# Altium footprint library ProMicro.PcbLib: 1 footprints
Each footprint in its own frame and in the unit in brackets; x right, y up, seen from the top. Pads: shape width x height; smd on the part's side, far side on the other; paste and mask are expansions set on the pad; w line width, h text height; cw(c..) or ccw(c..) is an arc to the next point about the centre after c.
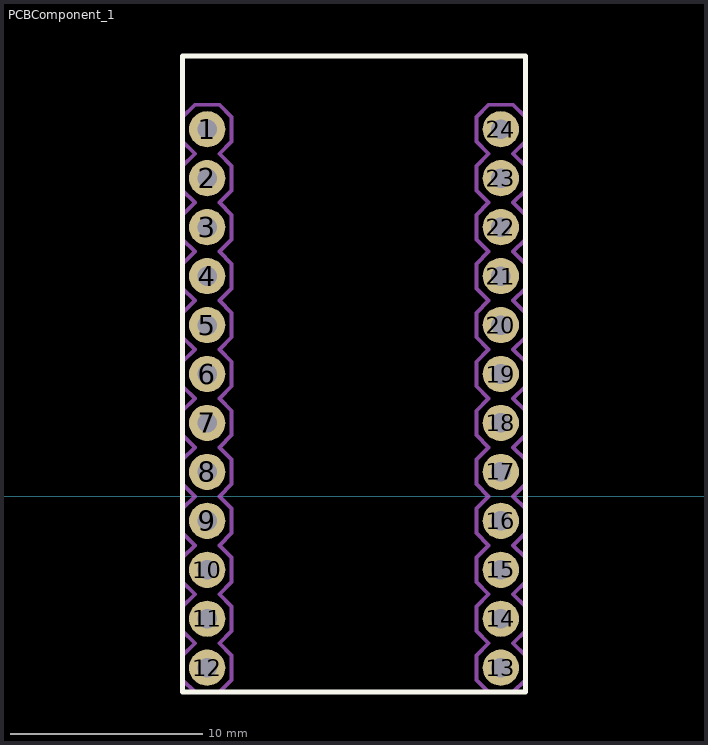
[diagram p0: the footprint, top view; thin cyan lines are the x and y axes]

## PCBComponent_1 [mil]
pads (24):
  round 74 hole 40: 1(500,750) 2(500,650) 3(500,550) 4(500,450) 5(500,350) 6(500,250) 7(500,150) 8(500,50) 9(500,-50) 10(500,-150) 11(500,-250) 12(500,-350) 13(1100,-350) 14(1100,-250) 15(1100,-150) 16(1100,-50) 17(1100,50) 18(1100,150) 19(1100,250) 20(1100,350) 21(1100,450) 22(1100,550) 23(1100,650) 24(1100,750)
Top Overlay:
  lines w10: 450,-400 450,900 1150,900 1150,-400 450,-400
Mechanical 4:
  region: 1110,160 1090,160 1090,140 1110,140
  region: 1110,260 1090,260 1090,240 1110,240
  region: 1110,360 1090,360 1090,340 1110,340
  region: 1110,460 1090,460 1090,440 1110,440
  region: 1110,560 1090,560 1090,540 1110,540
  region: 1110,660 1090,660 1090,640 1110,640
  region: 1110,760 1090,760 1090,740 1110,740
  region: 1110,60 1090,60 1090,40 1110,40
  region: 1110,-40 1090,-40 1090,-60 1110,-60
  region: 1110,-140 1090,-140 1090,-160 1110,-160
  region: 1110,-240 1090,-240 1090,-260 1110,-260
  region: 1110,-340 1090,-340 1090,-360 1110,-360
  region: 510,160 490,160 490,140 510,140
  region: 510,260 490,260 490,240 510,240
  region: 510,360 490,360 490,340 510,340
  region: 510,460 490,460 490,440 510,440
  region: 510,560 490,560 490,540 510,540
  region: 510,660 490,660 490,640 510,640
  region: 510,760 490,760 490,740 510,740
  region: 510,60 490,60 490,40 510,40
  region: 510,-40 490,-40 490,-60 510,-60
  region: 510,-140 490,-140 490,-160 510,-160
  region: 510,-240 490,-240 490,-260 510,-260
  region: 510,-340 490,-340 490,-360 510,-360
Mechanical 8:
  lines w8: 450,-375 450,-325 475,-300 450,-275 450,-225 475,-200 450,-175 450,-125 475,-100 450,-75 450,-25 475,0 450,25 450,75 475,100 450,125 450,175 475,200 450,225 450,275 475,300 450,325 450,375 475,400 450,425 450,475 475,500 450,525 450,575 475,600 450,625 450,675 475,700 450,725 450,775 475,800 525,800 550,775 550,725 525,700 550,675 550,625 525,600 550,575 550,525 525,500 550,475 550,425 525,400 550,375 550,325 525,300 550,275 550,225 525,200 550,175 550,125 525,100 550,75 550,25 525,0 550,-25 550,-75 525,-100 550,-125 550,-175 525,-200 550,-225 550,-275 525,-300 550,-325 550,-375 525,-400 475,-400 450,-375 ; 1050,-375 1050,-325 1075,-300 1050,-275 1050,-225 1075,-200 1050,-175 1050,-125 1075,-100 1050,-75 1050,-25 1075,0 1050,25 1050,75 1075,100 1050,125 1050,175 1075,200 1050,225 1050,275 1075,300 1050,325 1050,375 1075,400 1050,425 1050,475 1075,500 1050,525 1050,575 1075,600 1050,625 1050,675 1075,700 1050,725 1050,775 1075,800 1125,800 1150,775 1150,725 1125,700 1150,675 1150,625 1125,600 1150,575 1150,525 1125,500 1150,475 1150,425 1125,400 1150,375 1150,325 1125,300 1150,275 1150,225 1125,200 1150,175 1150,125 1125,100 1150,75 1150,25 1125,0 1150,-25 1150,-75 1125,-100 1150,-125 1150,-175 1125,-200 1150,-225 1150,-275 1125,-300 1150,-325 1150,-375 1125,-400 1075,-400 1050,-375